# Altium footprint library AIMLAB_TESTSTATION_ADC_V1.PcbLib: 45 footprints (part 2 of 3)
Each footprint in its own frame and in the unit in brackets; x right, y up, seen from the top. Pads: shape width x height; smd on the part's side, far side on the other; paste and mask are expansions set on the pad; w line width, h text height; cw(c..) or ccw(c..) is an arc to the next point about the centre after c.
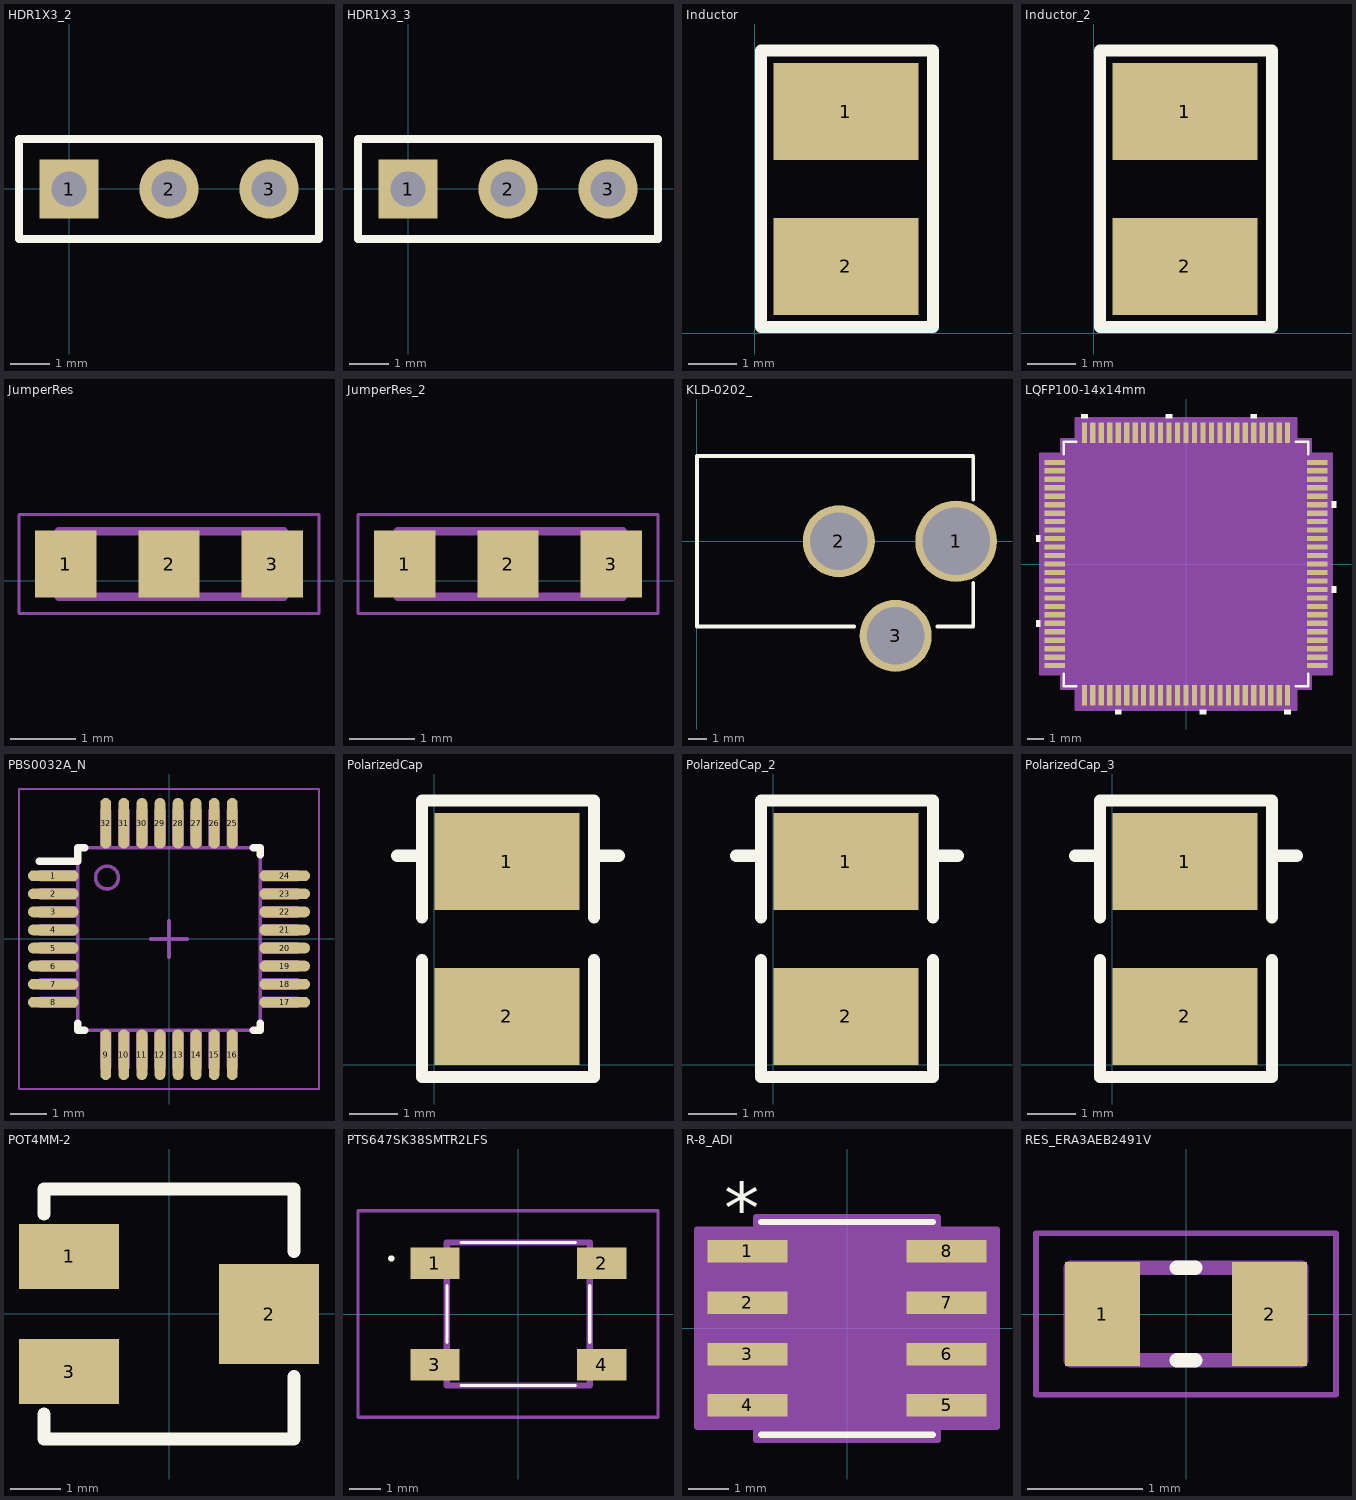
[diagram p1: the footprints below, top view; thin cyan lines are the x and y axes]

## HDR1X3_2 [mm]
pads (3):
  rect 1.5x1.5 hole 0.9: 1(0,0)
  round 1.5 hole 0.9: 2(2.54,0) 3(5.08,0)
Top Overlay:
  lines w0.2: -1.27,-1.27 6.35,-1.27 6.35,1.27 -1.27,1.27 -1.27,-1.27

## HDR1X3_3 [mm]
pads (3):
  rect 1.5x1.5 hole 0.9: 1(0,0)
  round 1.5 hole 0.9: 2(2.54,0) 3(5.08,0)
Top Overlay:
  lines w0.2: -1.27,-1.27 6.35,-1.27 6.35,1.27 -1.27,1.27 -1.27,-1.27

## Inductor [mm]
pads (2):
  rect 3x2 smd: 1(1.881,4.581) 2(1.881,1.381)
Top Overlay:
  lines w0.254: 0.127,0.127 0.127,5.842 3.683,5.842 3.683,0.127 0.127,0.127

## Inductor_2 [mm]
pads (2):
  rect 3x2 smd: 1(1.881,4.581) 2(1.881,1.381)
Top Overlay:
  lines w0.254: 0.127,0.127 3.683,0.127 3.683,5.842 0.127,5.842 0.127,0.127

## JumperRes [mm]
height 1
pads (3):
  rect 0.94x1.02 smd: 1(1.496,0.254) 2(3.076,0.254) 3(4.656,0.254)
Mechanical 13:
  lines w0.127: 1.386,-0.246 3.186,-0.246 3.186,0.754 1.386,0.754 1.386,-0.246 ; 3.037,-0.246 4.837,-0.246 4.837,0.754 3.037,0.754 3.037,-0.246
Mechanical 15:
  lines w0.05: 0.778,-0.504 5.374,-0.504 5.374,1.012 0.778,1.012 0.778,-0.504

## JumperRes_2 [mm]
pads (3):
  rect 0.94x1.02 smd: 1(1.496,0.254) 2(3.076,0.254) 3(4.656,0.254)
Mechanical 13:
  lines w0.127: 1.386,-0.246 3.186,-0.246 3.186,0.754 1.386,0.754 1.386,-0.246 ; 3.037,-0.246 4.837,-0.246 4.837,0.754 3.037,0.754 3.037,-0.246
Mechanical 15:
  lines w0.05: 0.778,-0.504 5.374,-0.504 5.374,1.012 0.778,1.012 0.778,-0.504

## KLD-0202_ [mil]
pads (3):
  round 170 hole 140: 1(539.37,0)
  round 150 hole 120: 2(295.28,0) 3(413.39,-196.85)
Top Overlay:
  lines w7.87: 326.77,-177.17 0,-177.17 0,177.16 574.8,177.16 574.81,86.61 ; 500,-177.17 574.81,-177.17 574.81,-86.62
Mechanical 2:
  lines w39.37: 295.28,-39.37 295.28,39.37 ; 374.02,-196.85 452.76,-196.85 ; 539.37,-49.21 539.37,49.21

## LQFP100-14x14mm [mil]
pads (100):
  rect 47x12 smd paste+0 mask+0: 1(-305.12,236.22) 2(-305.12,216.54) 3(-305.12,196.85) 4(-305.12,177.17) 5(-305.12,157.48) 6(-305.12,137.8) 7(-305.12,118.11) 8(-305.12,98.43) 9(-305.12,78.74) 10(-305.12,59.06) 11(-305.12,39.37) 12(-305.12,19.69) 13(-305.12,0) 14(-305.12,-19.68) 15(-305.12,-39.37) 16(-305.12,-59.06) 17(-305.12,-78.74) 18(-305.12,-98.43) 19(-305.12,-118.11) 20(-305.12,-137.8) 21(-305.12,-157.48) 22(-305.12,-177.17) 23(-305.12,-196.85) 24(-305.12,-216.54) 25(-305.12,-236.22) 51(305.12,-236.22) 52(305.12,-216.54) 53(305.12,-196.85) 54(305.12,-177.17) 55(305.12,-157.48) 56(305.12,-137.8) 57(305.12,-118.11) 58(305.12,-98.43) 59(305.12,-78.74) 60(305.12,-59.06) 61(305.12,-39.37) 62(305.12,-19.68) 63(305.12,0) 64(305.12,19.68) 65(305.12,39.37) 66(305.12,59.06) 67(305.12,78.74) 68(305.12,98.43) 69(305.12,118.11) 70(305.12,137.8) 71(305.12,157.48) 72(305.12,177.17) 73(305.12,196.85) 74(305.12,216.54) 75(305.12,236.22)
  rect 12x47 smd paste+0 mask+0: 26(-236.22,-305.12) 27(-216.54,-305.12) 28(-196.85,-305.12) 29(-177.17,-305.12) 30(-157.48,-305.12) 31(-137.8,-305.12) 32(-118.11,-305.12) 33(-98.43,-305.12) 34(-78.74,-305.12) 35(-59.06,-305.12) 36(-39.37,-305.12) 37(-19.68,-305.12) 38(0,-305.12) 39(19.68,-305.12) 40(39.37,-305.12) 41(59.06,-305.12) 42(78.74,-305.12) 43(98.43,-305.12) 44(118.11,-305.12) 45(137.8,-305.12) 46(157.48,-305.12) 47(177.17,-305.12) 48(196.85,-305.12) 49(216.54,-305.12) 50(236.22,-305.12) 76(236.22,305.12) 77(216.54,305.12) 78(196.85,305.12) 79(177.17,305.12) 80(157.48,305.12) 81(137.8,305.12) 82(118.11,305.12) 83(98.43,305.12) 84(78.74,305.12) 85(59.06,305.12) 86(39.37,305.12) 87(19.68,305.12) 88(0,305.12) 89(-19.68,305.12) 90(-39.37,305.12) 91(-59.06,305.12) 92(-78.74,305.12) 93(-98.43,305.12) 94(-118.11,305.12) 95(-137.8,305.12) 96(-157.48,305.12) 97(-177.17,305.12) 98(-196.85,305.12) 99(-216.54,305.12) 100(-236.22,305.12)
Top Overlay:
  region: -338.62,66.56 -348.62,66.56 -348.62,51.56 -338.62,51.56
  region: -338.62,-130.3 -348.62,-130.3 -348.62,-145.3 -338.62,-145.3
  region: -149.98,-338.62 -164.98,-338.62 -164.98,-348.62 -149.98,-348.62
  region: 46.87,-338.62 31.87,-338.62 31.87,-348.62 46.87,-348.62
  region: 243.72,-338.62 228.72,-338.62 228.72,-348.62 243.72,-348.62
  region: 338.62,-51.56 348.62,-51.56 348.62,-66.56 338.62,-66.56
  region: 338.62,145.3 348.62,145.3 348.62,130.3 338.62,130.3
  region: 164.98,338.62 149.98,338.62 149.98,348.62 164.98,348.62
  region: -31.87,338.62 -46.87,338.62 -46.87,348.62 -31.87,348.62
  region: -228.72,338.62 -243.72,338.62 -243.72,348.62 -228.72,348.62
  lines w6: -284.5,-255.32 -284.5,-284.5 -255.32,-284.5 ; -284.5,255.32 -284.5,284.5 -255.32,284.5 ; 255.32,-284.5 284.5,-284.5 284.5,-255.32 ; 255.32,284.5 284.5,284.5 284.5,255.32
  text ".Designator" at -7.87,-78.74 h50
Mechanical 13:
  lines w1: -279.5,229.5 -229.5,279.5 ; -279.5,-279.5 279.5,-279.5 279.5,279.5 -279.5,279.5 -279.5,-279.5
  text ".Designator" at -137.5,-25 h50
Mechanical 15:
  region: -256.22,-289.5 -289.5,-289.5 -289.5,-256.22 -338.62,-256.22 -338.62,256.22 -289.5,256.22 -289.5,289.5 -256.22,289.5 -256.22,338.62 256.22,338.62 256.22,289.5 289.5,289.5 289.5,256.22 338.62,256.22 338.62,-256.22 289.5,-256.22 289.5,-289.5 256.22,-289.5 256.22,-338.62 -256.22,-338.62
  lines w6: -338.62,-256.22 -289.5,-256.22 -289.5,-289.5 -256.22,-289.5 -256.22,-338.62 256.22,-338.62 256.22,-289.5 289.5,-289.5 289.5,-256.22 338.62,-256.22 338.62,256.22 289.5,256.22 289.5,289.5 256.22,289.5 256.22,338.62 -256.22,338.62 -256.22,289.5 -289.5,289.5 -289.5,256.22 -338.62,256.22 -338.62,-256.22
3D body "LQFP100-14x14mm.step": height 63.11, standoff 0, extent -314.84,-314.84 314.84,314.84

## PBS0032A_N [mm]
pads (32):
  oval 1.4x0.3 smd paste+0 mask+0.051: 1(-3.2,1.75) 2(-3.2,1.25) 3(-3.2,0.75) 4(-3.2,0.25) 5(-3.2,-0.25) 6(-3.2,-0.75) 7(-3.2,-1.25) 8(-3.2,-1.75) 17(3.2,-1.75) 18(3.2,-1.25) 19(3.2,-0.75) 20(3.2,-0.25) 21(3.2,0.25) 22(3.2,0.75) 23(3.2,1.25) 24(3.2,1.75)
  oval 0.3x1.4 smd paste+0 mask+0.051: 9(-1.75,-3.2) 10(-1.25,-3.2) 11(-0.75,-3.2) 12(-0.25,-3.2) 13(0.25,-3.2) 14(0.75,-3.2) 15(1.25,-3.2) 16(1.75,-3.2) 25(1.75,3.2) 26(1.25,3.2) 27(0.75,3.2) 28(0.25,3.2) 29(-0.25,3.2) 30(-0.75,3.2) 31(-1.25,3.2) 32(-1.75,3.2)
Top Overlay:
  lines w0.2: -3.6,2.15 -2.527,2.15 -2.527,2.527 -2.327,2.527 ; -2.527,-2.327 -2.527,-2.527 -2.327,-2.527 ; 2.327,-2.527 2.527,-2.527 2.527,-2.327 ; 2.327,2.527 2.527,2.527 2.527,2.327
Mechanical 13:
  circle w0.1: c-1.716,1.7 r0.316
  lines w0.1: -3.556,-1.864 -2.527,-1.864 -2.527,-1.636 -3.556,-1.636 -3.556,-1.864 ; -3.556,-1.364 -2.527,-1.364 -2.527,-1.136 -3.556,-1.136 -3.556,-1.364 ; -3.556,-0.864 -2.527,-0.864 -2.527,-0.636 -3.556,-0.636 -3.556,-0.864 ; -3.556,-0.364 -2.527,-0.364 -2.527,-0.136 -3.556,-0.136 -3.556,-0.364 ; -3.556,0.136 -2.527,0.136 -2.527,0.364 -3.556,0.364 -3.556,0.136 ; -3.556,0.636 -2.527,0.636 -2.527,0.864 -3.556,0.864 -3.556,0.636 ; -3.556,1.136 -2.527,1.136 -2.527,1.364 -3.556,1.364 -3.556,1.136 ; -3.556,1.636 -2.527,1.636 -2.527,1.864 -3.556,1.864 -3.556,1.636 ; -2.527,-2.527 -2.527,2.527 2.527,2.527 2.527,-2.527 -2.527,-2.527 ; -1.864,-3.556 -1.636,-3.556 -1.636,-2.527 -1.864,-2.527 -1.864,-3.556 ; -1.864,2.527 -1.864,3.556 -1.636,3.556 -1.636,2.527 -1.864,2.527 ; -1.364,-3.556 -1.136,-3.556 -1.136,-2.527 -1.364,-2.527 -1.364,-3.556 ; -1.364,2.527 -1.364,3.556 -1.136,3.556 -1.136,2.527 -1.364,2.527 ; -0.864,-3.556 -0.636,-3.556 -0.636,-2.527 -0.864,-2.527 -0.864,-3.556 ; -0.864,2.527 -0.864,3.556 -0.636,3.556 -0.636,2.527 -0.864,2.527 ; -0.364,-3.556 -0.136,-3.556 -0.136,-2.527 -0.364,-2.527 -0.364,-3.556 ; -0.364,2.527 -0.364,3.556 -0.136,3.556 -0.136,2.527 -0.364,2.527 ; 0.136,-3.556 0.364,-3.556 0.364,-2.527 0.136,-2.527 0.136,-3.556 ; 0.136,2.527 0.136,3.556 0.364,3.556 0.364,2.527 0.136,2.527 ; 0.636,-3.556 0.864,-3.556 0.864,-2.527 0.636,-2.527 0.636,-3.556 ; 0.636,2.527 0.636,3.556 0.864,3.556 0.864,2.527 0.636,2.527 ; 1.136,-3.556 1.364,-3.556 1.364,-2.527 1.136,-2.527 1.136,-3.556 ; 1.136,2.527 1.136,3.556 1.364,3.556 1.364,2.527 1.136,2.527 ; 1.636,-3.556 1.864,-3.556 1.864,-2.527 1.636,-2.527 1.636,-3.556 ; 1.636,2.527 1.636,3.556 1.864,3.556 1.864,2.527 1.636,2.527 ; 2.527,-1.864 3.556,-1.864 3.556,-1.636 2.527,-1.636 2.527,-1.864 ; 2.527,-1.364 3.556,-1.364 3.556,-1.136 2.527,-1.136 2.527,-1.364 ; 2.527,-0.864 3.556,-0.864 3.556,-0.636 2.527,-0.636 2.527,-0.864 ; 2.527,-0.364 3.556,-0.364 3.556,-0.136 2.527,-0.136 2.527,-0.364 ; 2.527,0.136 3.556,0.136 3.556,0.364 2.527,0.364 2.527,0.136 ; 2.527,0.636 3.556,0.636 3.556,0.864 2.527,0.864 2.527,0.636 ; 2.527,1.136 3.556,1.136 3.556,1.364 2.527,1.364 2.527,1.136 ; 2.527,1.636 3.556,1.636 3.556,1.864 2.527,1.864 2.527,1.636
Mechanical 15:
  lines w0.05: -4.15,-4.15 -4.15,4.15 4.15,4.15 4.15,-4.15 -4.15,-4.15
  lines w0.1: -0.5,0 0.5,0 ; 0,-0.5 0,0.5

## PolarizedCap [mm]
height 1
pads (2):
  rect 3x2 smd: 1(1.5,4.2) 2(1.5,1)
Top Overlay:
  lines w0.254: -0.762,4.318 -0.254,4.318 ; -0.254,2.159 -0.254,-0.254 3.302,-0.254 3.302,2.159 ; -0.254,3.048 -0.254,5.461 3.302,5.461 3.302,3.048 ; 3.302,4.318 3.81,4.318

## PolarizedCap_2 [mm]
pads (2):
  rect 3x2 smd: 1(1.5,4.2) 2(1.5,1)
Top Overlay:
  lines w0.254: -0.762,4.318 -0.254,4.318 ; -0.254,2.159 -0.254,-0.254 3.302,-0.254 3.302,2.159 ; -0.254,3.048 -0.254,5.461 3.302,5.461 3.302,3.048 ; 3.302,4.318 3.81,4.318

## PolarizedCap_3 [mm]
pads (2):
  rect 3x2 smd: 1(1.5,4.2) 2(1.5,1)
Top Overlay:
  lines w0.254: -0.762,4.318 -0.254,4.318 ; -0.254,2.159 -0.254,-0.254 3.302,-0.254 3.302,2.159 ; -0.254,3.048 -0.254,5.461 3.302,5.461 3.302,3.048 ; 3.302,4.318 3.81,4.318

## POT4MM-2 [mm]
pads (3):
  rect 2x1.3 smd: 1(-2,1.15) 3(-2,-1.15)
  rect 2x2 smd: 2(2,0)
Top Overlay:
  lines w0.254: -2.5,-2 -2.5,-2.5 2.5,-2.5 2.5,-1.25 ; -2.5,2 -2.5,2.5 2.5,2.5 2.5,1.25

## PTS647SK38SMTR2LFS [mm]
pads (4):
  rect 1.55x1 smd: 1(-2.625,1.6) 2(2.625,1.6) 3(-2.625,-1.6) 4(2.625,-1.6)
Top Overlay:
  lines w0.1: -2.25,-0.9 -2.25,0.9 ; -1.8,-2.25 1.8,-2.25 ; -1.8,2.25 1.8,2.25 ; 2.25,-0.9 2.25,0.9 ; -4,1.7 ccw(c-4,1.75) -4,1.8 ccw(c-4,1.75) -4,1.7
Mechanical 13:
  lines w0.1: -5.05,-3.25 -5.05,3.25 4.4,3.25 4.4,-3.25 -5.05,-3.25
  lines w0.2: -2.25,-2.25 -2.25,2.25 2.25,2.25 2.25,-2.25 -2.25,-2.25
3D body "step_temp.STEP": height 3.8, standoff 0, extent -3.25,-2.25 3.25,2.25

## R-8_ADI [mil]
pads (8):
  rect 78x22 smd paste+0 mask+0: 1(-97,75) 2(-97,25) 3(-97,-25) 4(-97,-75) 5(97,-75) 6(97,-25) 7(97,25) 8(97,75)
Top Overlay:
  lines w6: -83.5,-103.5 83.5,-103.5 ; -83.5,103.5 83.5,103.5
  text "*" at -119.5,92 h50
Mechanical 13:
  lines w0: -12,98.5 ccw(c0,98.5) 12,98.5
  lines w1: -122,-85 -122,-65 -78.5,-65 -78.5,-85 -122,-85 ; -122,-35 -122,-15 -78.5,-15 -78.5,-35 -122,-35 ; -122,15 -122,35 -78.5,35 -78.5,15 -122,15 ; -122,65 -122,85 -78.5,85 -78.5,65 -122,65 ; -78.5,-98.5 78.5,-98.5 78.5,98.5 -78.5,98.5 -78.5,-98.5 ; 78.5,-85 78.5,-65 122,-65 122,-85 78.5,-85 ; 78.5,-35 78.5,-15 122,-15 122,-35 78.5,-35 ; 78.5,15 78.5,35 122,35 122,15 78.5,15 ; 78.5,65 78.5,85 122,85 122,65 78.5,65
  text "*" at -76,45.5 h50
Mechanical 15:
  region: -88.5,-96 -146,-96 -146,96 -88.5,96 -88.5,108.5 88.5,108.5 88.5,96 146,96 146,-96 88.5,-96 88.5,-108.5 -88.5,-108.5
  lines w6: -146,-96 -146,96 -88.5,96 -88.5,108.5 88.5,108.5 88.5,96 146,96 146,-96 88.5,-96 88.5,-108.5 -88.5,-108.5 -88.5,-96 -146,-96
3D body "R-8_ADI.step": height 69.09, standoff 0, extent -122.01,-98.5 122.01,98.5

## RES_ERA3AEB2491V [mm]
height 1
pads (2):
  rect 0.65x0.9 smd: 1(-0.725,0) 2(0.725,0)
Top Overlay:
  lines w0.127: -0.08,-0.4 0.08,-0.4 ; -0.08,0.4 0.08,0.4
Mechanical 13:
  lines w0.127: -1,-0.4 -1,0.4 1,0.4 1,-0.4 -1,-0.4
Mechanical 15:
  lines w0.05: -1.3,-0.7 -1.3,0.7 1.3,0.7 1.3,-0.7 -1.3,-0.7